# EAGLE library part SWITCH-DPDT (library M.2 SoM breakout board V1.0)
DPDT Version of the COM-00597
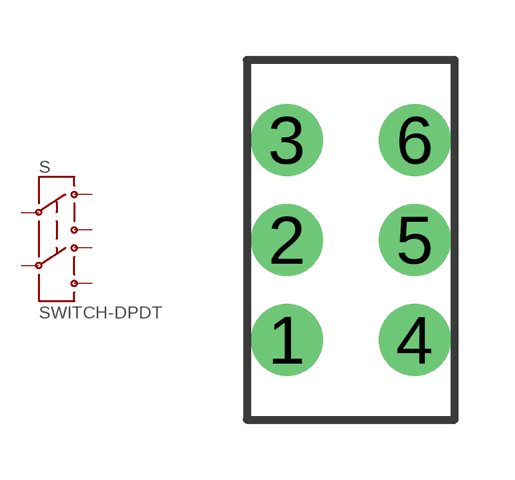
[diagram p6: symbol with the pads of SWITCH-2.5X3.2-6; footprint SWITCH-2.5X3.2-6]

Designator prefix S

## SWITCH-DPDT (PROD_ID: SWCH-12340; SF_SKU: COM-11151)  [SWITCH-2.5X3.2-6]
1  1
2  2
3  3
4  4
5  5
6  6

## Footprint SWITCH-2.5X3.2-6 (pad centres in mm)
drill 1 pad 1.8: 1 0,0; 2 0,2.5; 3 0,5; 4 3.2,0; 5 3.2,2.5; 6 3.2,5